# Altium integrated library SXT32411BB17-25.000MT.IntLib: 1 symbol
Pins are listed as number, name and electrical type; pins without a type are passive.

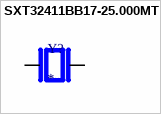
[diagram p0: symbol SXT32411BB17-25.000MT]

## SXT32411BB17-25.000MT
designator Y?
MF: {'manufacturer': u'Suntsu Electronics, Inc'}; MP: SXT32411BB17-25.000MT; Package: None; Price: None; Value: *; Availability: Unavailable
footprint XTAL_SXT32411BB17-25.000MT
pins: 1, 3